# EAGLE library part MC9S08GT60CFB (library GW-devices)
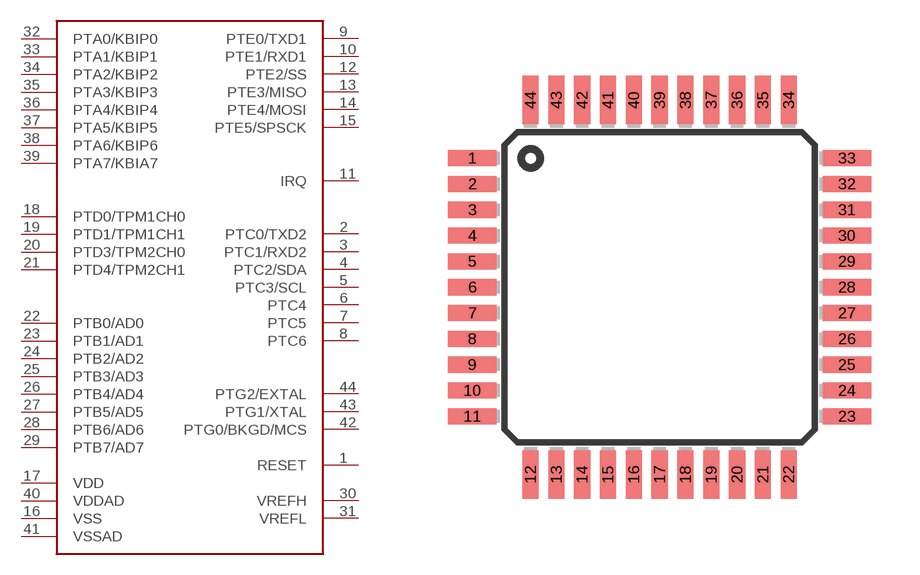
[diagram p0: symbol with the pads of TQFP44; footprint TQFP44]

Designator prefix -

## MC9S08GT60CFB  [TQFP44]
1  RESET  pwr
2  PTC0/TXD2  pwr
3  PTC1/RXD2  pwr
4  PTC2/SDA  pwr
5  PTC3/SCL  pwr
6  PTC4  pwr
7  PTC5  pwr
8  PTC6  pwr
9  PTE0/TXD1  pwr
10  PTE1/RXD1  pwr
11  IRQ  pwr
12  PTE2/SS  pwr
13  PTE3/MISO  pwr
14  PTE4/MOSI  pwr
15  PTE5/SPSCK  pwr
16  VSS  pwr
17  VDD  pwr
18  PTD0/TPM1CH0  pwr
19  PTD1/TPM1CH1  pwr
20  PTD3/TPM2CH0  pwr
21  PTD4/TPM2CH1  pwr
22  PTB0/AD0  pwr
23  PTB1/AD1  pwr
24  PTB2/AD2  pwr
25  PTB3/AD3  pwr
26  PTB4/AD4  pwr
27  PTB5/AD5  pwr
28  PTB6/AD6  pwr
29  PTB7/AD7  pwr
30  VREFH  pwr
31  VREFL  pwr
32  PTA0/KBIP0  pwr
33  PTA1/KBIP1  pwr
34  PTA2/KBIP2  pwr
35  PTA3/KBIP3  pwr
36  PTA4/KBIP4  pwr
37  PTA5/KBIP5  pwr
38  PTA6/KBIP6  pwr
39  PTA7/KBIA7  pwr
40  VDDAD  pwr
41  VSSAD  pwr
42  PTG0/BKGD/MCS  pwr
43  PTG1/XTAL  pwr
44  PTG2/EXTAL  pwr

## Footprint TQFP44 (pad centres in mm)
Thin Quad Flat Pack
smd 1.5 x 0.5: 1 -5.8,4; 2 -5.8,3.2; 3 -5.8,2.4; 4 -5.8,1.6; 5 -5.8,0.8; 6 -5.8,0; 7 -5.8,-0.8; 8 -5.8,-1.6; 9 -5.8,-2.4; 10 -5.8,-3.2; 11 -5.8,-4; 23 5.8,-4; 24 5.8,-3.2; 25 5.8,-2.4; 26 5.8,-1.6; 27 5.8,-0.8; 28 5.8,0; 29 5.8,0.8; 30 5.8,1.6; 31 5.8,2.4; 32 5.8,3.2; 33 5.8,4
smd 0.5 x 1.5: 12 -4,-5.8; 13 -3.2,-5.8; 14 -2.4,-5.8; 15 -1.6,-5.8; 16 -0.8,-5.8; 17 0,-5.8; 18 0.8,-5.8; 19 1.6,-5.8; 20 2.4,-5.8; 21 3.2,-5.8; 22 4,-5.8; 34 4,5.8; 35 3.2,5.8; 36 2.4,5.8; 37 1.6,5.8; 38 0.8,5.8; 39 0,5.8; 40 -0.8,5.8; 41 -1.6,5.8; 42 -2.4,5.8; 43 -3.2,5.8; 44 -4,5.8